# EAGLE library part PEC11R-4220F-S0024 (library OpenSourceSyringePump)
Bourns 24 Pulse Incremental Mechanical Rotary Encoder with a 6 mm Flat Shaft (Not Indexed), Through Hole Source: Datasheet <https://componentsearchengine.com/Datasheets/1/PEC11R-4220F-S0024.pdf>
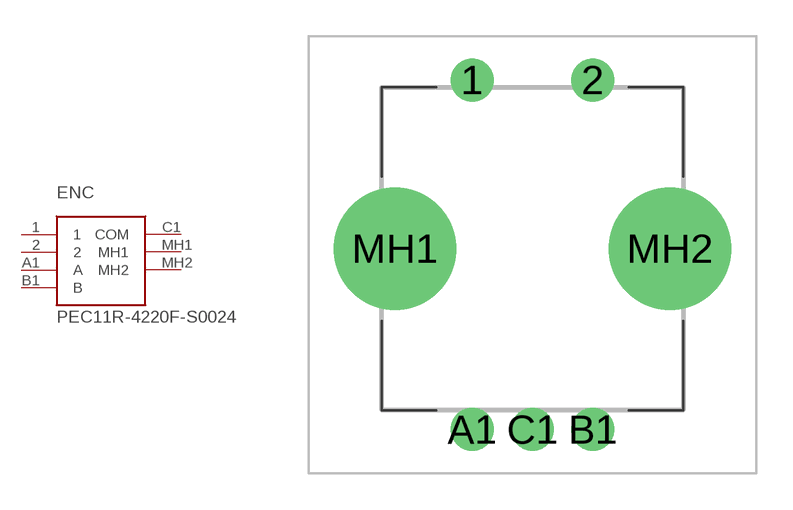
[diagram p1: symbol with the pads of PEC11R4220FS0024; footprint PEC11R4220FS0024]

Designator prefix ENC

## PEC11R-4220F-S0024 (DESCRIPTION: Bourns 24 Pulse Incremental Mechanical Rotary Encoder with a 6 mm Flat Shaft (Not Indexed), Through Hole; HEIGHT: 27.5mm; MANUFACTURER_NAME: Bourns; MANUFACTURER_PART_NUMBER: PEC11R-4220F-S0024; MOUSER_PART_NUMBER: 652-PEC11R-4220F-S24; MOUSER_PRICE-STOCK: https://www.mouser.com/Search/Refine.aspx?Keyword=652-PEC11R-4220F-S24)  [PEC11R4220FS0024]
1  1
2  2
A1  A
B1  B
C1  COM  pwr
MH1  MH1
MH2  MH2

## Footprint PEC11R4220FS0024 (pad centres in mm)
PEC11R-4220F-S0024-2
drill 0.94 pad 1.778: 1 0,0; 2 5,0; A1 0,-14.5; B1 5,-14.5; C1 2.5,-14.5
drill 3.048 pad 5.08: MH1 -3.2,-7; MH2 8.2,-7